# Altium footprint library Transistors.PcbLib: 2 footprints
Each footprint in its own frame and in the unit in brackets; x right, y up, seen from the top. Pads: shape width x height; smd on the part's side, far side on the other; paste and mask are expansions set on the pad; w line width, h text height; cw(c..) or ccw(c..) is an arc to the next point about the centre after c.
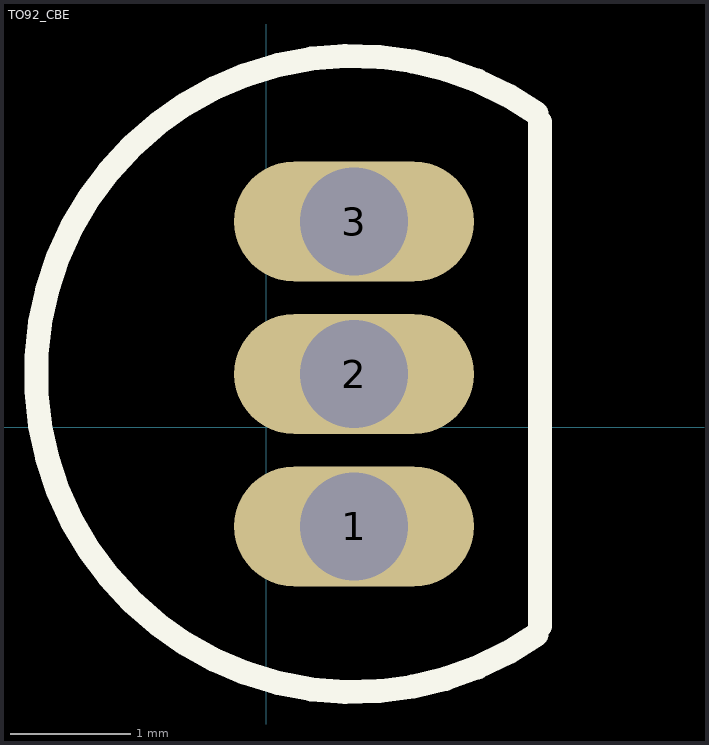
[diagram p0: the footprints below, top view; thin cyan lines are the x and y axes]

## PCBComponent_1 [mm]

## TO92_CBE [mm]
pads (3):
  oval 2x1 hole 0.9: 1(0.73,-0.826) 2(0.73,0.444) 3(0.73,1.714)
Top Overlay:
  lines w0.2: 2.25,-1.727 cw(c0.73,0.444) 2.25,2.615 ; 2.28,-1.656 2.28,2.544